# Altium schematic symbol library ZenerDiode.SchLib: 2 symbols
Pins are listed as number, name and electrical type; pins without a type are passive.

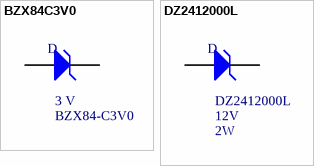
[diagram p0: symbols BZX84C3V0 to DZ2412000L]

## BZX84C3V0
designator D  value 3 V  Manufacturer Code: BZX84-C3V0  (hidden comment: *)
Manufacturer: NXP; Farnell Code: 1081418; Unit Price: 0,122 €
footprint SOT23
pins: 1 A, 3 K

## DZ2412000L
designator D  value DZ2412000L  Voltage: 12V  Power: 2W  (hidden comment: *)
Manufacturer: PANASONIC; Farnell Code: 2285255; Manufacturer Code: DZ2412000L; Unit Price: 0,34 €
footprint SOD128
pins: 1 A, 2 K